# EAGLE library part 13-DIN (library 13PINDIN)
Right-angled mountable 13-pin DIN socket for multichannel (MIDI) guitar circuits.
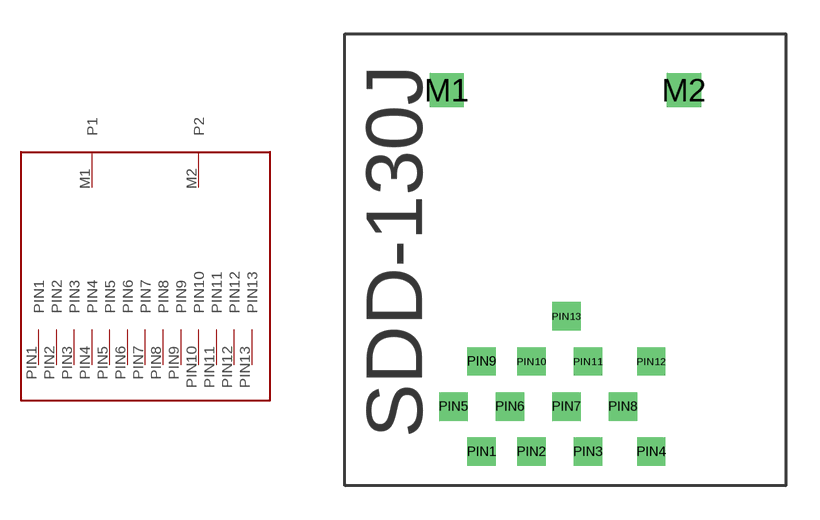
[diagram p0: symbol with the pads of DIN-13; footprint DIN-13]

Designator prefix -

## 13-DIN13PINDIN  [DIN-13]
M1  P1
M2  P2
PIN1  PIN1
PIN2  PIN2
PIN3  PIN3
PIN4  PIN4
PIN5  PIN5
PIN6  PIN6
PIN7  PIN7
PIN8  PIN8
PIN9  PIN9
PIN10  PIN10
PIN11  PIN11
PIN12  PIN12
PIN13  PIN13

## Footprint DIN-13 (pad centres in mm)
SDD-130J - 13 pin DIN for multichannel (MIDI) guitars
drill 1 square: M1 -5.25,7.5; M2 5.25,7.5
drill 0.75 square: PIN1 -3.7,-8.5; PIN2 -1.5,-8.5; PIN3 1,-8.5; PIN4 3.8,-8.5; PIN5 -4.95,-6.5; PIN6 -2.45,-6.5; PIN7 0.05,-6.5; PIN8 2.55,-6.5; PIN9 -3.7,-4.5; PIN10 -1.5,-4.5; PIN11 1,-4.5; PIN12 3.8,-4.5; PIN13 0.05,-2.5